# EAGLE library part PAM8407 (library pimoroni)
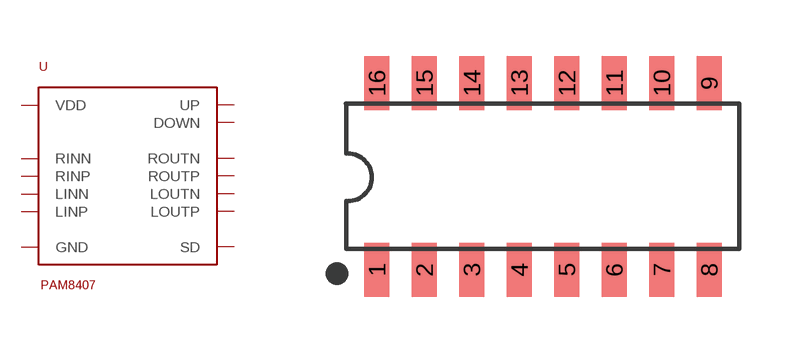
[diagram p48: symbol with the pads of SO-16; footprint SO-16]

Designator prefix -

## PAM8407  [SO-16]
1  RINP
2  RINN
3  SD
4  UP
5  DOWN
6  GND
7  LINN
8  LINP
9  VDD
10  LOUTP
11  LOUTN
12  GND
13  GND
14  ROUTN
15  ROUTP
16  VDD

## Footprint SO-16 (pad centres in mm)
smd 0.67 x 1.45: 1 -4.445,-2.5; 2 -3.175,-2.5; 3 -1.905,-2.5; 4 -0.635,-2.5; 5 0.635,-2.5; 6 1.905,-2.5; 7 3.175,-2.5; 8 4.445,-2.5; 9 4.445,2.5; 10 3.175,2.5; 11 1.905,2.5; 12 0.635,2.5; 13 -0.635,2.5; 14 -1.905,2.5; 15 -3.175,2.5; 16 -4.445,2.5